# Altium integrated library LM4040A82IDBZR.IntLib: 1 symbol
Pins are listed as number, name and electrical type; pins without a type are passive.

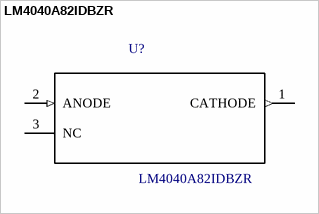
[diagram p0: symbol LM4040A82IDBZR]

## LM4040A82IDBZR
designator U?
Precision Micropower Shunt Voltage Reference, 0.1% accuracy 3-SOT-23 -40 to 85; MF: Texas Instruments; Availability: Unavailable; Package: SOT-23-3 Texas Instruments; Price: None; SnapEDA_Link: https://www.snapeda.com/parts/LM4040A82IDBZR/Texas%20Instruments/view-part/?ref=snap; MP: LM4040A82IDBZR; Value: *
footprint SOT95P237X112-3N
pins: 1 CATHODE (out), 2 ANODE (in), 3 NC